# EAGLE library part 615008185121 (library Wurth-USB)
Modular Jack Horizontal Shielded Low Profile with LED 8P8C Tab Up WR-MJ KIND PROPERTIES: Quality Class 750 Mating cycles LED (Left-Right) yellow-green MATERIAL PROPERTIES: Insulator Material PA10T Insulator Flammability Rating UL94 V-0 Insulator Color Black Contact Material Copper Alloy Contact Plating Selective Gold Contact Type Stamped Shielding Material Stainless Steel GENERAL PROPERTIES: Operating Temperature -40 °C up to +85 °C Compliance Lead free / RoHS ELECTRICAL PROPERTIES: Rated Current [1] 1.5 A Withstanding Voltage 1000 V (AC) Contact Resistance 30 mΩ Insulation Resistance 1000 MΩ STANDARD: UL Approval E324776 PACKAGING PROPERTIES: Packaging Tray Packaging Unit (Qty.) 60 mm <http://katalog.we-online.de/media/images/v2/Family_WR-MJ_615008185121.jpg> Details see: http://katalog.we-online.de/em/datasheet/615008185121.pdf Created 2017-11-28, Yingchun,Shan 2017(C) Würth Elektronik
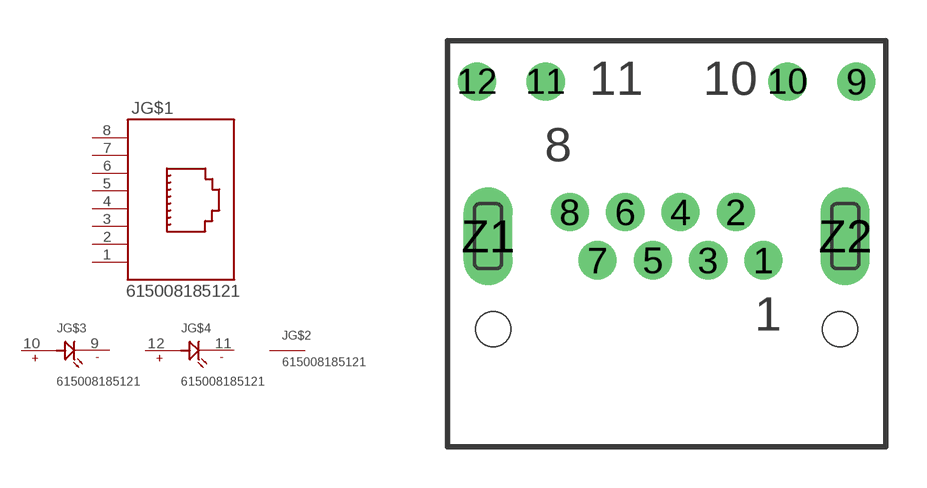
[diagram p175: symbol with the pads of 615008185121; footprint 615008185121]

Designator prefix J; gates G$1=4X4-4 G$2=SHIELD G$3=LED G$4=LED

## 615008185121  [615008185121]
1  G$1:1  pas
2  G$1:2  pas
3  G$1:3  pas
4  G$1:4  pas
5  G$1:5  pas
6  G$1:6  pas
7  G$1:7  pas
8  G$1:8  pas
9  G$3:A10  pas
10  G$3:A9  pas
11  G$4:A10  pas
12  G$4:A9  pas
Z1  G$2:SHIELD  pas
Z2  G$2:SHIELD  pas

## Footprint 615008185121 (pad centres in mm)
drill 0.9: 1 3.57,2.54; 2 2.55,4.32; 3 1.53,2.54; 4 0.51,4.32; 5 -0.51,2.54; 6 -1.53,4.32; 7 -2.55,2.54; 8 -3.57,4.32; 9 7,9.14; 10 4.46,9.14; 11 -4.46,9.14; 12 -7,9.14
drill 1 pad 1.8 long: Z1 -6.59,3.43; Z2 6.59,3.43
hole 1.3 at 6.4,0
hole 1.3 at -6.4,0